# Altium schematic symbol library DIODE GEN PURP 1KV 1A SMA.SchLib: 2 symbols
Pins are listed as number, name and electrical type; pins without a type are passive.

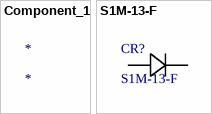
[diagram p0: symbols Component_1 to S1M-13-F]

## Component_1
designator *

## S1M-13-F
designator CR?
No Description Available; Vendor: Diodes Inc; Built_By: EMA_UL_Team; SourceLibrary: DiodesInc_2015-05-08; Type: DEV; Manufacturer_Part_Number: S1M-13-F; Copyright: Copyright (C) 2018 Accelerated Designs. All rights reserved; RefDes: RefDes
footprint SMA_DIO
pins: 1, 2